# EAGLE library part SARA-G3 (library borkedlabs-ublox)
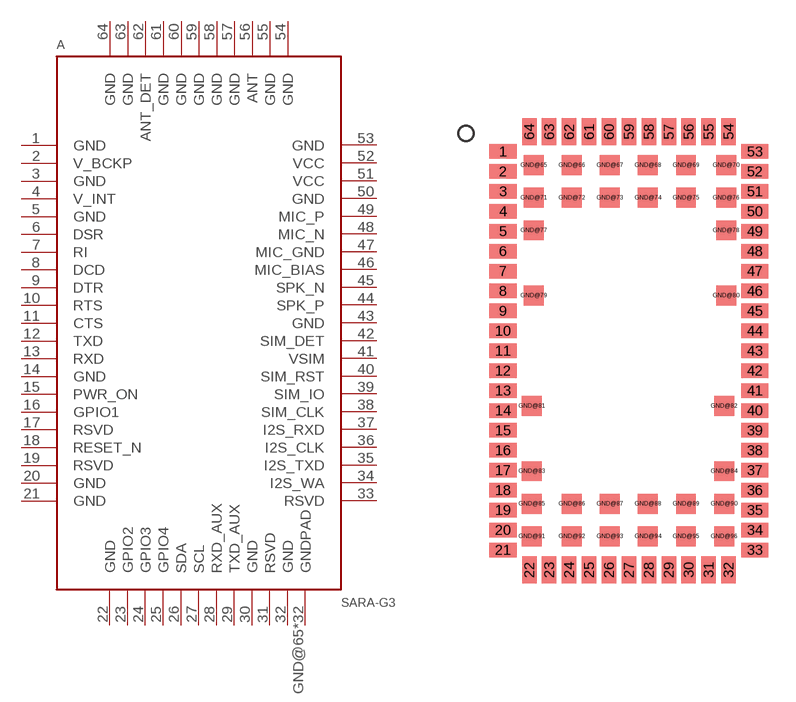
[diagram p0: symbol with the pads of SARA; footprint SARA]

Designator prefix A

## SARA-G340  [SARA]
1  GND
2  V_BCKP
3  GND
4  V_INT
5  GND
6  DSR
7  RI
8  DCD
9  DTR
10  RTS
11  CTS
12  TXD
13  RXD
14  GND
15  PWR_ON
16  GPIO1
17  RSVD
18  RESET_N
19  RSVD
20  GND
21  GND
22  GND
23  GPIO2
24  GPIO3
25  GPIO4
26  SDA
27  SCL
28  RXD_AUX
29  TXD_AUX
30  GND
31  RSVD
32  GND
33  RSVD
34  I2S_WA
35  I2S_TXD
36  I2S_CLK
37  I2S_RXD
38  SIM_CLK
39  SIM_IO
40  SIM_RST
41  VSIM
42  SIM_DET
43  GND
44  SPK_P
45  SPK_N
46  MIC_BIAS
47  MIC_GND
48  MIC_N
49  MIC_P
50  GND
51  VCC
52  VCC
53  GND
54  GND
55  GND
56  ANT
57  GND
58  GND
59  GND
60  GND
61  GND
62  ANT_DET
63  GND
64  GND
GND@65  GNDPAD
GND@66  GNDPAD
GND@67  GNDPAD
GND@68  GNDPAD
GND@69  GNDPAD
GND@70  GNDPAD
GND@71  GNDPAD
GND@72  GNDPAD
GND@73  GNDPAD
GND@74  GNDPAD
GND@75  GNDPAD
GND@76  GNDPAD
GND@77  GNDPAD
GND@78  GNDPAD
GND@79  GNDPAD
GND@80  GNDPAD
GND@81  GNDPAD
GND@82  GNDPAD
GND@83  GNDPAD
GND@84  GNDPAD
GND@85  GNDPAD
GND@86  GNDPAD
GND@87  GNDPAD
GND@88  GNDPAD
GND@89  GNDPAD
GND@90  GNDPAD
GND@91  GNDPAD
GND@92  GNDPAD
GND@93  GNDPAD
GND@94  GNDPAD
GND@95  GNDPAD
GND@96  GNDPAD

## Footprint SARA (pad centres in mm)
smd 1.5 x 0.8: 1 -6.95,11; 2 -6.95,9.9; 3 -6.95,8.8; 4 -6.95,7.7; 5 -6.95,6.6; 6 -6.95,5.5; 7 -6.95,4.4; 8 -6.95,3.3; 9 -6.95,2.2; 10 -6.95,1.1; 11 -6.95,0; 12 -6.95,-1.1; 13 -6.95,-2.2; 14 -6.95,-3.3; 15 -6.95,-4.4; 16 -6.95,-5.5; 17 -6.95,-6.6; 18 -6.95,-7.7; 19 -6.95,-8.8; 20 -6.95,-9.9; 21 -6.95,-11; 33 6.95,-11; 34 6.95,-9.9; 35 6.95,-8.8; 36 6.95,-7.7; 37 6.95,-6.6; 38 6.95,-5.5; 39 6.95,-4.4; 40 6.95,-3.3; 41 6.95,-2.2; 42 6.95,-1.1; 43 6.95,0; 44 6.95,1.1; 45 6.95,2.2; 46 6.95,3.3; 47 6.95,4.4; 48 6.95,5.5; 49 6.95,6.6; 50 6.95,7.7; 51 6.95,8.8; 52 6.95,9.9; 53 6.95,11
smd 0.8 x 1.5: 22 -5.5,-12.1; 23 -4.4,-12.1; 24 -3.3,-12.1; 25 -2.2,-12.1; 26 -1.1,-12.1; 27 0,-12.1; 28 1.1,-12.1; 29 2.2,-12.1; 30 3.3,-12.1; 31 4.4,-12.1; 32 5.5,-12.1; 54 5.5,12.1; 55 4.4,12.1; 56 3.3,12.1; 57 2.2,12.1; 58 1.1,12.1; 59 0,12.1; 60 -1.1,12.1; 61 -2.2,12.1; 62 -3.3,12.1; 63 -4.4,12.1; 64 -5.5,12.1
smd 1.1 x 1.1: GND@65 -5.25,10.25; GND@66 -3.15,10.25; GND@67 -1.05,10.25; GND@68 1.05,10.25; GND@69 3.15,10.25; GND@70 5.36,10.25; GND@71 -5.25,8.45; GND@72 -3.15,8.45; GND@73 -1.05,8.45; GND@74 1.05,8.45; GND@75 3.15,8.45; GND@76 5.36,8.45; GND@77 -5.25,6.65; GND@78 5.36,6.65; GND@79 -5.25,3.05; GND@80 5.36,3.05; GND@81 -5.36,-3.05; GND@82 5.25,-3.05; GND@83 -5.36,-6.65; GND@84 5.25,-6.65; GND@85 -5.36,-8.45; GND@86 -3.15,-8.45; GND@87 -1.05,-8.45; GND@88 1.05,-8.45; GND@89 3.15,-8.45; GND@90 5.25,-8.45; GND@91 -5.36,-10.25; GND@92 -3.15,-10.25; GND@93 -1.05,-10.25; GND@94 1.05,-10.25; GND@95 3.15,-10.25; GND@96 5.25,-10.25